# EAGLE library part CON_ETH_RJ45 (library mylib_20130829)
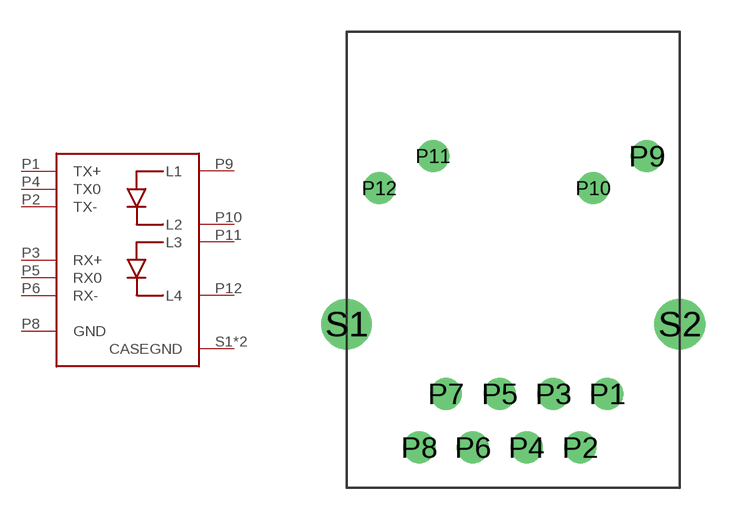
[diagram p95: symbol with the pads of CON_LAN_RJ45_2LED_AKI; footprint CON_LAN_RJ45_2LED_AKI]

Designator prefix J

## CON_ETH_RJ45  [CON_LAN_RJ45_2LED_AKI]
P1  TX+
P2  TX-
P3  RX+
P4  TX0
P5  RX0
P6  RX-
P8  GND
P9  L1
P10  L2
P11  L3
P12  L4
S1  CASEGND
S2  CASEGND

## Footprint CON_LAN_RJ45_2LED_AKI (pad centres in mm)
drill 1: P1 8.89,2.54; P2 7.62,0; P3 6.35,2.54; P4 5.08,0; P5 3.81,2.54; P6 2.54,0; P7 1.27,2.54; P8 0,0; P9 10.77,13.79; P10 8.23,12.27; P11 0.66,13.79; P12 -1.88,12.27
drill 1.6 pad 2.184: S1 -3.43,5.84; S2 12.32,5.84